# EAGLE library part A075-1599M2 (library saw-filters-narrowband)
A075-1599M2 Параметр Ед. изм. Мин. значение Тип. значение Макс. значение Центральная частота МГц 1596 1599 1602 Минимальное вносимое затухание дБ 3.5 5.5 7 Полоса среза по уровню -2 дБ МГц 15 17 19 Полоса среза по уровню -30 дБ МГц 59 63 64 Неравномерность АЧХ дБ - 1.3 2 Групповое время задержки нс - - - Гарантированное затухание дБ - 40 - Температурный диапазон °C -55 22 +85 Материал подложки - - Танталат лития 36 - Разработан: ООО"АЭК Дизайн" Серийное производство: ООО"АЭК
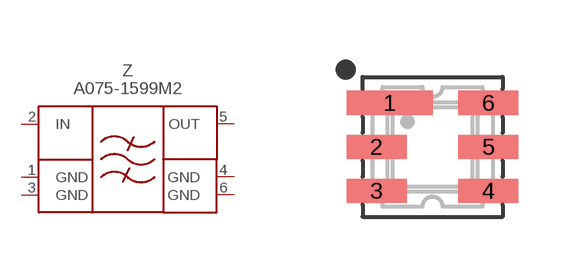
[diagram p4: symbol with the pads of DCC6; footprint DCC6]

Designator prefix Z

## A075-1599M2  [DCC6]
1  GND  pwr
2  IN  in
3  GND  pwr
4  GND  pwr
5  OUT  out
6  GND  pwr

## Footprint DCC6 (pad centres in mm)
smd 2.15 x 0.6: 1 -1.075,1.1
smd 1.5 x 0.6: 2 -1.4,0; 3 -1.4,-1.1; 4 1.4,-1.1; 5 1.4,0; 6 1.4,1.1